# EAGLE library part INA3221AIRGVR (library INA3221AIRGVR)
26V, Triple, Bi-Directional, Low-/High-Side, I2C Out Current/Voltage Monitor w/Alerts Source: Datasheet <http://www.ti.com/lit/ds/symlink/ina3221.pdf>
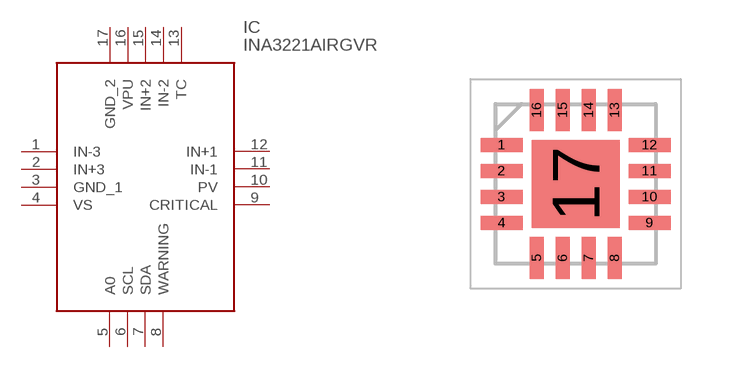
[diagram p0: symbol with the pads of QFN65P400X400X100-17N; footprint QFN65P400X400X100-17N]

Designator prefix IC

## INA3221AIRGVR (Arrow_Part_Number: INA3221AIRGVR; Arrow_Price-Stock: https://www.arrow.com/en/products/ina3221airgvr/texas-instruments?region=nac; Description: 26V, Triple, Bi-Directional, Low-/High-Side, I2C Out Current/Voltage Monitor w/Alerts; Height: 1mm; Manufacturer_Name: Texas Instruments; Manufacturer_Part_Number: INA3221AIRGVR; Mouser_Part_Number: 595-INA3221AIRGVR; Mouser_Price-Stock: https://www.mouser.co.uk/ProductDetail/Texas-Instruments/INA3221AIRGVR?qs=3AcK5DacLboHys8907TVUQ%3D%3D)  [QFN65P400X400X100-17N]
1  IN-3
2  IN+3
3  GND_1
4  VS
5  A0
6  SCL
7  SDA
8  WARNING
9  CRITICAL
10  PV
11  IN-1
12  IN+1
13  TC
14  IN-2
15  IN+2
16  VPU
17  GND_2

## Footprint QFN65P400X400X100-17N (pad centres in mm)
INA3221AIRGVR
smd 1.05 x 0.35: 1 -1.85,0.975; 2 -1.85,0.325; 3 -1.85,-0.325; 4 -1.85,-0.975; 9 1.85,-0.975; 10 1.85,-0.325; 11 1.85,0.325; 12 1.85,0.975
smd 0.35 x 1.05: 5 -0.975,-1.85; 6 -0.325,-1.85; 7 0.325,-1.85; 8 0.975,-1.85; 13 0.975,1.85; 14 0.325,1.85; 15 -0.325,1.85; 16 -0.975,1.85
smd 2.2 x 2.2: 17 0,0